# Altium schematic symbol library SCH - MCU - ATSAM - MICROCHIP SAMD21E16B-AZ TQFP32.SchLib: 1 symbol
Pins are listed as number, name and electrical type; pins without a type are passive.

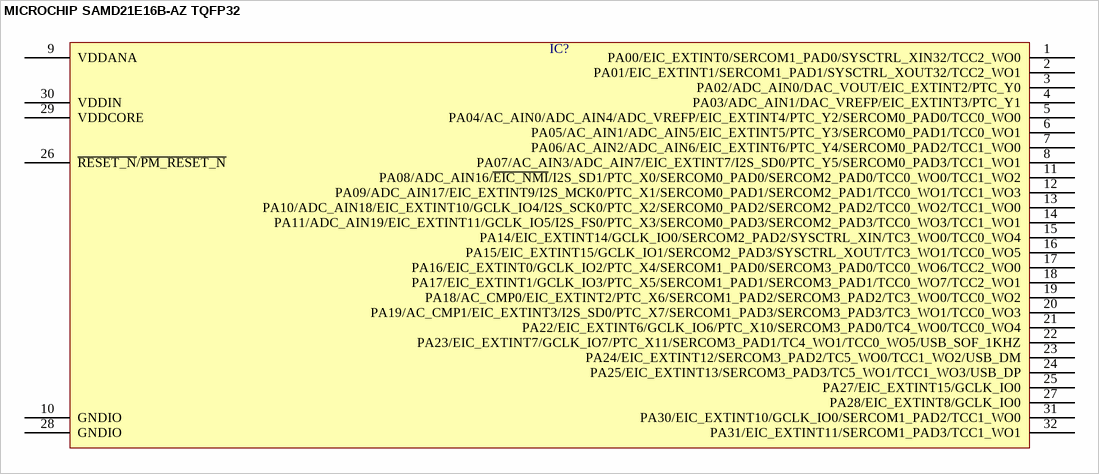
[diagram p0: symbol MICROCHIP SAMD21E16B-AZ TQFP32]

## MICROCHIP SAMD21E16B-AZ TQFP32
designator IC?  (value not drawn)
pins: 1 PA00/EIC_EXTINT0/SERCOM1_PAD0/SYSCTRL_XIN32/TCC2_WO0, 2 PA01/EIC_EXTINT1/SERCOM1_PAD1/SYSCTRL_XOUT32/TCC2_WO1, 3 PA02/ADC_AIN0/DAC_VOUT/EIC_EXTINT2/PTC_Y0, 4 PA03/ADC_AIN1/DAC_VREFP/EIC_EXTINT3/PTC_Y1, 5 PA04/AC_AIN0/ADC_AIN4/ADC_VREFP/EIC_EXTINT4/PTC_Y2/SERCOM0_PAD0/TCC0_WO0, 6 PA05/AC_AIN1/ADC_AIN5/EIC_EXTINT5/PTC_Y3/SERCOM0_PAD1/TCC0_WO1, 7 PA06/AC_AIN2/ADC_AIN6/EIC_EXTINT6/PTC_Y4/SERCOM0_PAD2/TCC1_WO0, 8 PA07/AC_AIN3/ADC_AIN7/EIC_EXTINT7/I2S_SD0/PTC_Y5/SERCOM0_PAD3/TCC1_WO1, 9 VDDANA, 10 GNDIO, 11 PA08/ADC_AIN16/~{EIC_NMI}/I2S_SD1/PTC_X0/SERCOM0_PAD0/SERCOM2_PAD0/TCC0_WO0/TCC1_WO2, 12 PA09/ADC_AIN17/EIC_EXTINT9/I2S_MCK0/PTC_X1/SERCOM0_PAD1/SERCOM2_PAD1/TCC0_WO1/TCC1_WO3, 13 PA10/ADC_AIN18/EIC_EXTINT10/GCLK_IO4/I2S_SCK0/PTC_X2/SERCOM0_PAD2/SERCOM2_PAD2/TCC0_WO2/TCC1_WO0, 14 PA11/ADC_AIN19/EIC_EXTINT11/GCLK_IO5/I2S_FS0/PTC_X3/SERCOM0_PAD3/SERCOM2_PAD3/TCC0_WO3/TCC1_WO1, 15 PA14/EIC_EXTINT14/GCLK_IO0/SERCOM2_PAD2/SYSCTRL_XIN/TC3_WO0/TCC0_WO4, 16 PA15/EIC_EXTINT15/GCLK_IO1/SERCOM2_PAD3/SYSCTRL_XOUT/TC3_WO1/TCC0_WO5, 17 PA16/EIC_EXTINT0/GCLK_IO2/PTC_X4/SERCOM1_PAD0/SERCOM3_PAD0/TCC0_WO6/TCC2_WO0, 18 PA17/EIC_EXTINT1/GCLK_IO3/PTC_X5/SERCOM1_PAD1/SERCOM3_PAD1/TCC0_WO7/TCC2_WO1, 19 PA18/AC_CMP0/EIC_EXTINT2/PTC_X6/SERCOM1_PAD2/SERCOM3_PAD2/TC3_WO0/TCC0_WO2, 20 PA19/AC_CMP1/EIC_EXTINT3/I2S_SD0/PTC_X7/SERCOM1_PAD3/SERCOM3_PAD3/TC3_WO1/TCC0_WO3, 21 PA22/EIC_EXTINT6/GCLK_IO6/PTC_X10/SERCOM3_PAD0/TC4_WO0/TCC0_WO4, 22 PA23/EIC_EXTINT7/GCLK_IO7/PTC_X11/SERCOM3_PAD1/TC4_WO1/TCC0_WO5/USB_SOF_1KHZ, 23 PA24/EIC_EXTINT12/SERCOM3_PAD2/TC5_WO0/TCC1_WO2/USB_DM, 24 PA25/EIC_EXTINT13/SERCOM3_PAD3/TC5_WO1/TCC1_WO3/USB_DP, 25 PA27/EIC_EXTINT15/GCLK_IO0, 26 ~{RESET_N}/~{PM_RESET_N}, 27 PA28/EIC_EXTINT8/GCLK_IO0, 28 GNDIO, 29 VDDCORE, 30 VDDIN, 31 PA30/EIC_EXTINT10/GCLK_IO0/SERCOM1_PAD2/TCC1_WO0, 32 PA31/EIC_EXTINT11/SERCOM1_PAD3/TCC1_WO1